# EAGLE library part SI8663BC-B-IS1 (library SensorCape)
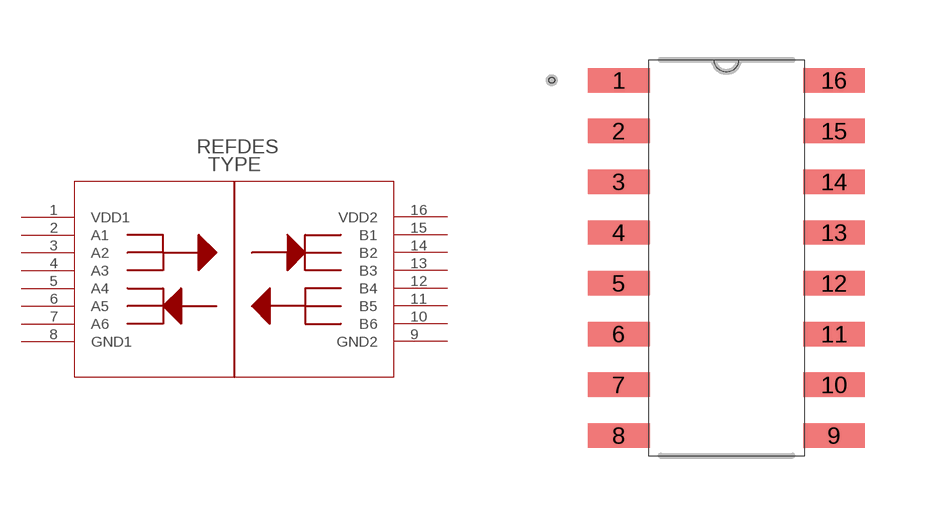
[diagram p16: symbol with the pads of SOIC-16; footprint SOIC-16]

Designator prefix U

## SI8663BC-B-IS1  [SOIC-16]
1  VDD1  pas
2  A1  pas
3  A2  pas
4  A3  pas
5  A4  pas
6  A5  pas
7  A6  pas
8  GND1  pas
9  GND2  pas
10  B6  pas
11  B5  pas
12  B4  pas
13  B3  pas
14  B2  pas
15  B1  pas
16  VDD2  pas

## Footprint SOIC-16 (pad centres in mm)
smd 1.549 x 0.61: 1 -2.692,4.445; 2 -2.692,3.175; 3 -2.692,1.905; 4 -2.692,0.635; 5 -2.692,-0.635; 6 -2.692,-1.905; 7 -2.692,-3.175; 8 -2.692,-4.445; 9 2.692,-4.445; 10 2.692,-3.175; 11 2.692,-1.905; 12 2.692,-0.635; 13 2.692,0.635; 14 2.692,1.905; 15 2.692,3.175; 16 2.692,4.445